# EAGLE library part STEPS_PRO_MICRO (library stepOSP)
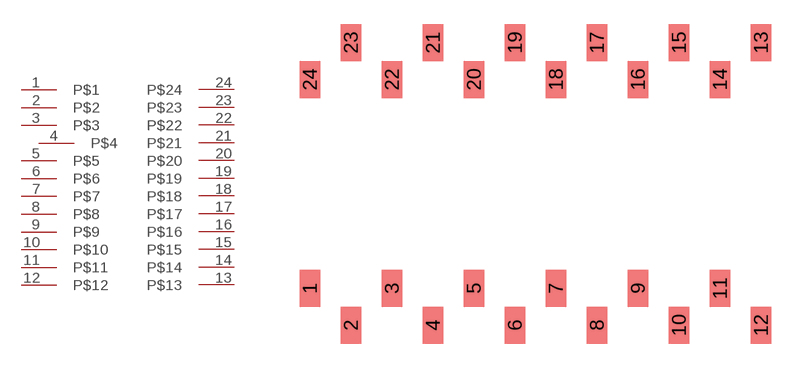
[diagram p25: symbol with the pads of STEPS_PRO_MINI_SMT; footprint STEPS_PRO_MINI_SMT]

Designator prefix -

## STEPS_PRO_MICRO  [STEPS_PRO_MINI_SMT]
1  P$1
2  P$2
3  P$3
4  P$4
5  P$5
6  P$6
7  P$7
8  P$8
9  P$9
10  P$10
11  P$11
12  P$12
13  P$13
14  P$14
15  P$15
16  P$16
17  P$17
18  P$18
19  P$19
20  P$20
21  P$21
22  P$22
23  P$23
24  P$24

## Footprint STEPS_PRO_MINI_SMT (pad centres in mm)
smd 1.27 x 2.286: 1 -10.16,1.143; 2 -7.62,-1.143; 3 -5.08,1.143; 4 -2.54,-1.143; 5 0,1.143; 6 2.54,-1.143; 7 5.08,1.143; 8 7.62,-1.143; 9 10.16,1.143; 10 12.7,-1.143; 11 15.24,1.143; 12 17.78,-1.143; 13 17.78,16.383; 14 15.24,14.097; 15 12.7,16.383; 16 10.16,14.097; 17 7.62,16.383; 18 5.08,14.097; 19 2.54,16.383; 20 0,14.097; 21 -2.54,16.383; 22 -5.08,14.097; 23 -7.62,16.383; 24 -10.16,14.097